# Altium footprint library HandlebarTouchFPCB.PcbLib: 2 footprints
Each footprint in its own frame and in the unit in brackets; x right, y up, seen from the top. Pads: shape width x height; smd on the part's side, far side on the other; paste and mask are expansions set on the pad; w line width, h text height; cw(c..) or ccw(c..) is an arc to the next point about the centre after c.
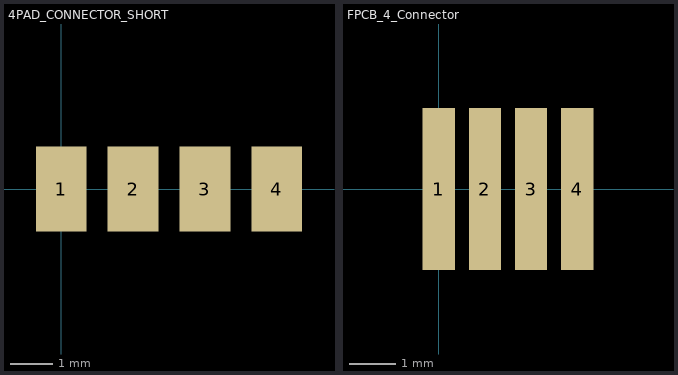
[diagram p0: the footprints below, top view; thin cyan lines are the x and y axes]

## 4PAD_CONNECTOR_SHORT [mm]
pads (4):
  rect 1.2x2 smd: 1(0,0) 2(1.7,0) 3(3.4,0) 4(5.1,0)

## FPCB_4_Connector [mm]
pads (4):
  rect 0.7x3.5 smd: 1(0,0) 2(1,0) 3(2,0) 4(3,0)